# Altium footprint library SOP65P780X200-20N.PcbLib: 1 footprints
Each footprint in its own frame and in the unit in brackets; x right, y up, seen from the top. Pads: shape width x height; smd on the part's side, far side on the other; paste and mask are expansions set on the pad; w line width, h text height; cw(c..) or ccw(c..) is an arc to the next point about the centre after c.
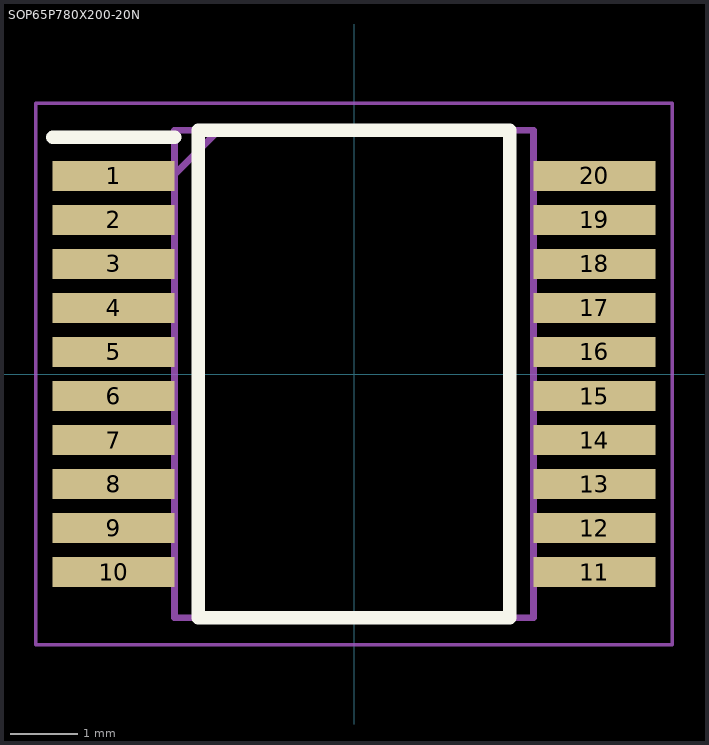
[diagram p0: the footprint, top view; thin cyan lines are the x and y axes]

## SOP65P780X200-20N [mm]
pads (20):
  rect 1.8x0.45 smd: 1(-3.55,2.925) 2(-3.55,2.275) 3(-3.55,1.625) 4(-3.55,0.975) 5(-3.55,0.325) 6(-3.55,-0.325) 7(-3.55,-0.975) 8(-3.55,-1.625) 9(-3.55,-2.275) 10(-3.55,-2.925) 11(3.55,-2.925) 12(3.55,-2.275) 13(3.55,-1.625) 14(3.55,-0.975) 15(3.55,-0.325) 16(3.55,0.325) 17(3.55,0.975) 18(3.55,1.625) 19(3.55,2.275) 20(3.55,2.925)
Top Overlay:
  lines w0.2: -4.45,3.5 -2.65,3.5 ; -2.3,-3.6 2.3,-3.6 2.3,3.6 -2.3,3.6 -2.3,-3.6
Mechanical 15:
  lines w0.1: -2.65,2.95 -2,3.6 ; -2.65,-3.6 2.65,-3.6 2.65,3.6 -2.65,3.6 -2.65,-3.6
Mechanical 20:
  lines w0.05: -4.7,-4 4.7,-4 4.7,4 -4.7,4 -4.7,-4